# Altium footprint library CANTRICK.PcbLib: 29 footprints (part 2 of 2)
Each footprint in its own frame and in the unit in brackets; x right, y up, seen from the top. Pads: shape width x height; smd on the part's side, far side on the other; paste and mask are expansions set on the pad; w line width, h text height; cw(c..) or ccw(c..) is an arc to the next point about the centre after c.
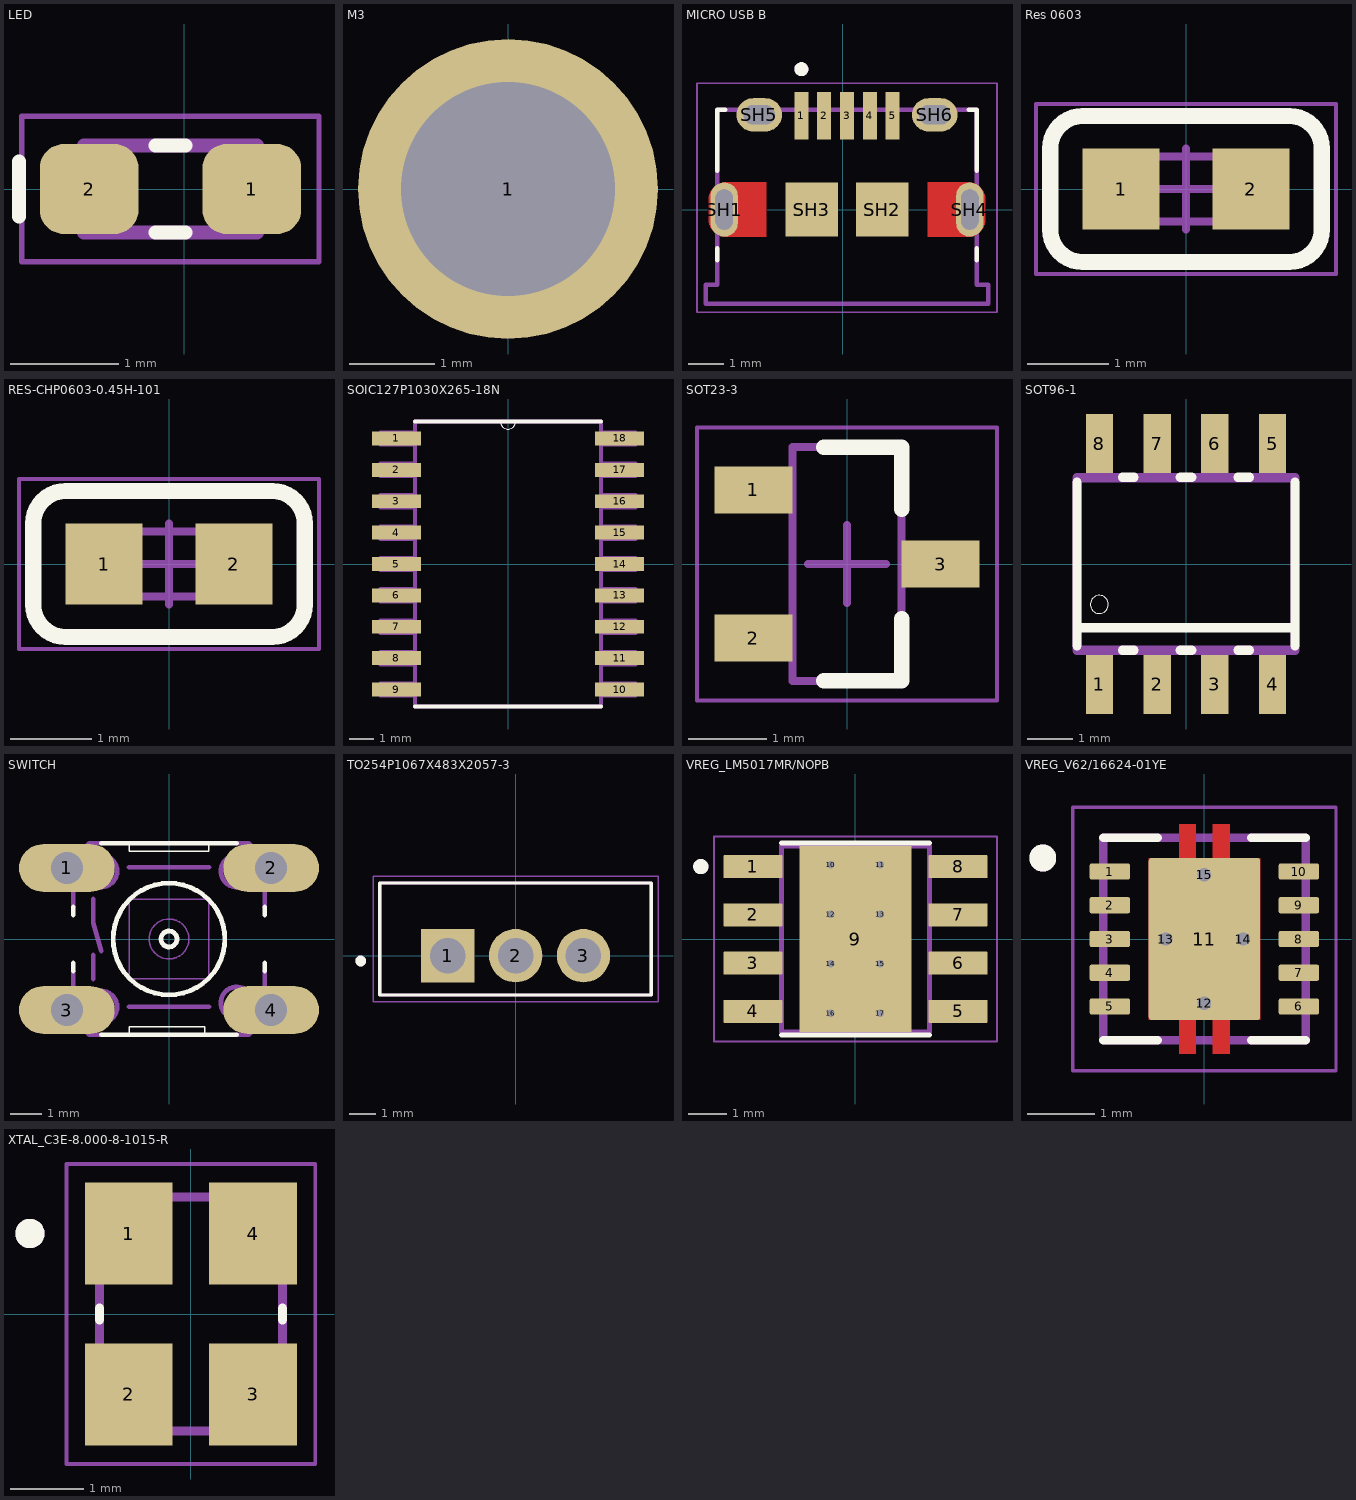
[diagram p1: the footprints below, top view; thin cyan lines are the x and y axes]

## LED [mm]
pads (2):
  rrect53% 0.91x0.83 smd: 1(0.623,0) 2(-0.877,0)
Top Overlay:
  lines w0.127: -1.524,-0.254 -1.524,0.254 ; -0.267,-0.4 0.013,-0.4 ; -0.267,0.4 0.013,0.4
Top Assembly:
  lines w0.127: -0.927,-0.4 -0.927,0.4 0.673,0.4 0.673,-0.4 -0.927,-0.4
Mechanical 15:
  lines w0.05: -1.497,-0.67 -1.497,0.67 1.243,0.67 1.243,-0.67 -1.497,-0.67
3D body "step_temp.STEP": height 0.7, standoff 0, extent -0.927,-0.4 0.673,0.4

## M3 [mm]
pads (1):
  round 3.5 hole 2.5: 1(0,0)

## MICRO USB B [mm]
pads (11):
  rect 0.4x1.35 smd: 1(-1.173,2.675) 2(-0.523,2.675) 3(0.127,2.675) 4(0.777,2.675) 5(1.427,2.675)
  oval 0.775x1.55 hole 0.5 slot 1.15 at 90 deg mask+0: SH1(-3.373,0) SH4(3.627,0)
  rect 1.5x1.55 smd: SH2(1.127,0) SH3(-0.873,0)
  oval 1.3x0.95 hole 0.55 slot 0.9 at 0 deg: SH5(-2.373,2.7) SH6(2.627,2.7)
Top Layer:
  region: -2.173,-0.775 -3.318,-0.775 -3.344,-0.774 -3.37,-0.772 -3.396,-0.769 -3.422,-0.764 -3.447,-0.758 -3.473,-0.751 -3.497,-0.742 -3.521,-0.732 -3.545,-0.721 -3.568,-0.708 -3.59,-0.694 -3.612,-0.68 -3.633,-0.664 -3.653,-0.647 -3.672,-0.629 -3.69,-0.61 -3.707,-0.59 -3.723,-0.569 -3.737,-0.547 -3.751,-0.525 -3.764,-0.502 -3.775,-0.478 -3.785,-0.454 -3.794,-0.43 -3.801,-0.404 -3.807,-0.379 -3.812,-0.353 -3.815,-0.327 -3.817,-0.301 -3.818,-0.275 -3.818,0.275 -3.817,0.301 -3.815,0.327 -3.812,0.353 -3.807,0.379 -3.801,0.404 -3.794,0.43 -3.785,0.454 -3.775,0.478 -3.764,0.502 -3.751,0.525 -3.737,0.547 -3.723,0.569 -3.707,0.59 -3.69,0.61 -3.672,0.629 -3.653,0.647 -3.633,0.664 -3.612,0.68 -3.59,0.694 -3.568,0.708 -3.545,0.721 -3.521,0.732 -3.497,0.742 -3.473,0.751 -3.447,0.758 -3.422,0.764 -3.396,0.769 -3.37,0.772 -3.344,0.774 -3.318,0.775 -2.173,0.775
  region: 3.598,0.774 3.624,0.772 3.65,0.769 3.676,0.764 3.701,0.758 3.727,0.751 3.751,0.742 3.775,0.732 3.799,0.721 3.822,0.708 3.844,0.694 3.866,0.68 3.887,0.664 3.907,0.647 3.926,0.629 3.944,0.61 3.961,0.59 3.977,0.569 3.991,0.547 4.005,0.525 4.018,0.502 4.029,0.478 4.039,0.454 4.048,0.43 4.055,0.404 4.061,0.379 4.066,0.353 4.069,0.327 4.071,0.301 4.072,0.275 4.072,-0.275 4.071,-0.301 4.069,-0.327 4.066,-0.353 4.061,-0.379 4.055,-0.404 4.048,-0.43 4.039,-0.454 4.029,-0.478 4.018,-0.502 4.005,-0.525 3.991,-0.547 3.977,-0.569 3.961,-0.59 3.944,-0.61 3.926,-0.629 3.907,-0.647 3.887,-0.664 3.866,-0.68 3.844,-0.694 3.822,-0.708 3.799,-0.721 3.775,-0.732 3.751,-0.742 3.727,-0.751 3.701,-0.758 3.676,-0.764 3.65,-0.769 3.624,-0.772 3.598,-0.774 3.572,-0.775 2.427,-0.775 2.427,0.775 3.572,0.775
Top Overlay:
  circle w0.2: c-1.173,4 r0.1
  lines w0.127: -3.573,-1.45 -3.573,-1.1 ; -3.573,1.1 -3.573,2.85 -3.343,2.85 ; 3.597,2.85 3.827,2.85 3.827,1.1 ; 3.827,-1.45 3.827,-1.1
Top Paste:
  region: -2.173,-0.775 -3.318,-0.775 -3.344,-0.774 -3.37,-0.772 -3.396,-0.769 -3.422,-0.764 -3.447,-0.758 -3.473,-0.751 -3.497,-0.742 -3.521,-0.732 -3.545,-0.721 -3.568,-0.708 -3.59,-0.694 -3.612,-0.68 -3.633,-0.664 -3.653,-0.647 -3.672,-0.629 -3.69,-0.61 -3.707,-0.59 -3.723,-0.569 -3.737,-0.547 -3.751,-0.525 -3.764,-0.502 -3.775,-0.478 -3.785,-0.454 -3.794,-0.43 -3.801,-0.404 -3.807,-0.379 -3.812,-0.353 -3.815,-0.327 -3.817,-0.301 -3.818,-0.275 -3.818,0.275 -3.817,0.301 -3.815,0.327 -3.812,0.353 -3.807,0.379 -3.801,0.404 -3.794,0.43 -3.785,0.454 -3.775,0.478 -3.764,0.502 -3.751,0.525 -3.737,0.547 -3.723,0.569 -3.707,0.59 -3.69,0.61 -3.672,0.629 -3.653,0.647 -3.633,0.664 -3.612,0.68 -3.59,0.694 -3.568,0.708 -3.545,0.721 -3.521,0.732 -3.497,0.742 -3.473,0.751 -3.447,0.758 -3.422,0.764 -3.396,0.769 -3.37,0.772 -3.344,0.774 -3.318,0.775 -2.173,0.775
  region: 3.598,0.774 3.624,0.772 3.65,0.769 3.676,0.764 3.701,0.758 3.727,0.751 3.751,0.742 3.775,0.732 3.799,0.721 3.822,0.708 3.844,0.694 3.866,0.68 3.887,0.664 3.907,0.647 3.926,0.629 3.944,0.61 3.961,0.59 3.977,0.569 3.991,0.547 4.005,0.525 4.018,0.502 4.029,0.478 4.039,0.454 4.048,0.43 4.055,0.404 4.061,0.379 4.066,0.353 4.069,0.327 4.071,0.301 4.072,0.275 4.072,-0.275 4.071,-0.301 4.069,-0.327 4.066,-0.353 4.061,-0.379 4.055,-0.404 4.048,-0.43 4.039,-0.454 4.029,-0.478 4.018,-0.502 4.005,-0.525 3.991,-0.547 3.977,-0.569 3.961,-0.59 3.944,-0.61 3.926,-0.629 3.907,-0.647 3.887,-0.664 3.866,-0.68 3.844,-0.694 3.822,-0.708 3.799,-0.721 3.775,-0.732 3.751,-0.742 3.727,-0.751 3.701,-0.758 3.676,-0.764 3.65,-0.769 3.624,-0.772 3.598,-0.774 3.572,-0.775 2.427,-0.775 2.427,0.775 3.572,0.775
Top Solder:
  region: -2.073,-0.875 -3.318,-0.875 -3.349,-0.874 -3.381,-0.872 -3.412,-0.868 -3.443,-0.862 -3.473,-0.855 -3.503,-0.846 -3.533,-0.835 -3.562,-0.823 -3.59,-0.81 -3.618,-0.795 -3.645,-0.778 -3.671,-0.76 -3.696,-0.741 -3.719,-0.721 -3.742,-0.699 -3.764,-0.676 -3.784,-0.653 -3.803,-0.628 -3.821,-0.602 -3.838,-0.575 -3.853,-0.547 -3.866,-0.519 -3.878,-0.49 -3.889,-0.46 -3.898,-0.43 -3.905,-0.4 -3.911,-0.369 -3.915,-0.338 -3.917,-0.306 -3.918,-0.275 -3.918,0.275 -3.917,0.306 -3.915,0.338 -3.911,0.369 -3.905,0.4 -3.898,0.43 -3.889,0.46 -3.878,0.49 -3.866,0.519 -3.853,0.547 -3.838,0.575 -3.821,0.602 -3.803,0.628 -3.784,0.653 -3.764,0.676 -3.742,0.699 -3.719,0.721 -3.696,0.741 -3.671,0.76 -3.645,0.778 -3.618,0.795 -3.59,0.81 -3.562,0.823 -3.533,0.835 -3.503,0.846 -3.473,0.855 -3.443,0.862 -3.412,0.868 -3.381,0.872 -3.349,0.874 -3.318,0.875 -2.073,0.875
  region: 3.603,0.874 3.635,0.872 3.666,0.868 3.697,0.862 3.727,0.855 3.757,0.846 3.787,0.835 3.816,0.823 3.844,0.81 3.872,0.795 3.899,0.778 3.925,0.76 3.95,0.741 3.973,0.721 3.996,0.699 4.018,0.676 4.038,0.653 4.057,0.628 4.075,0.602 4.092,0.575 4.107,0.547 4.12,0.519 4.132,0.49 4.143,0.46 4.152,0.43 4.159,0.4 4.165,0.369 4.169,0.338 4.171,0.306 4.172,0.275 4.172,-0.275 4.171,-0.306 4.169,-0.338 4.165,-0.369 4.159,-0.4 4.152,-0.43 4.143,-0.46 4.132,-0.49 4.12,-0.519 4.107,-0.547 4.092,-0.575 4.075,-0.602 4.057,-0.628 4.038,-0.653 4.018,-0.676 3.996,-0.699 3.973,-0.721 3.95,-0.741 3.925,-0.76 3.899,-0.778 3.872,-0.795 3.844,-0.81 3.816,-0.823 3.787,-0.835 3.757,-0.846 3.727,-0.855 3.697,-0.862 3.666,-0.868 3.635,-0.872 3.603,-0.874 3.572,-0.875 2.327,-0.875 2.327,0.875 3.572,0.875
Bottom Solder:
  drawing of 2 lines, arcs and shapes, not listed
Top Assembly:
  circle w0.2: c-1.173,4 r0.1
  lines w0.127: -3.898,-2.68 4.152,-2.68 4.152,-2.15 3.827,-2.15 3.827,2.85 -3.573,2.85 -3.573,-1.45 -3.573,-2.15 -3.898,-2.15 -3.898,-2.68
Mechanical 15:
  lines w0.05: -4.148,-2.93 -4.148,3.6 4.402,3.6 4.402,-2.93 -4.148,-2.93
3D body "step_temp.STEP": height 2.67, standoff -0.6, extent -3.898,-2.68 4.152,2.85

## Res 0603 [mm]
pads (2):
  rect 0.95x1 smd: 1(-0.8,0) 2(0.8,0)
Top Overlay:
  lines w0.2: -1.675,-0.5 ccw(c-1.275,-0.5) -1.275,-0.9 1.275,-0.9 ccw(c1.275,-0.5) 1.675,-0.5 1.675,0.5 ccw(c1.275,0.5) 1.275,0.9 -1.275,0.9 ccw(c-1.275,0.5) -1.675,0.5 -1.675,-0.5
Bottom 3D Body:
  lines w0.05: -1.85,-1.05 -1.85,1.05 1.85,1.05 1.85,-1.05 -1.85,-1.05
  lines w0.1: -0.5,0 0.5,0 ; 0,-0.5 0,0.5
Top Value:
  lines w0.1: -0.8,-0.4 -0.8,0.4 0.8,0.4 0.8,-0.4 -0.8,-0.4
  text "'.Comment'" at -3.512,-0.512 h1.6
Top Assembly:
  lines w0.1: -0.8,-0.4 -0.8,0.4 0.8,0.4 0.8,-0.4 -0.8,-0.4
  text "'.Designator'" at -3.872,-0.362 h1.6
3D body "RES-0603-0.45H-101.STEP": height 0.48, standoff 0.03, extent -0.8,-0.4 0.8,0.4

## RES-CHP0603-0.45H-101 [mm]
pads (2):
  rect 0.95x1 smd: 1(-0.8,0) 2(0.8,0)
Top Overlay:
  lines w0.2: -1.675,-0.5 ccw(c-1.275,-0.5) -1.275,-0.9 1.275,-0.9 ccw(c1.275,-0.5) 1.675,-0.5 1.675,0.5 ccw(c1.275,0.5) 1.275,0.9 -1.275,0.9 ccw(c-1.275,0.5) -1.675,0.5 -1.675,-0.5
Top Courtyard:
  lines w0.05: -1.85,-1.05 -1.85,1.05 1.85,1.05 1.85,-1.05 -1.85,-1.05
  lines w0.1: -0.5,0 0.5,0 ; 0,-0.5 0,0.5
Top Value:
  lines w0.1: -0.8,-0.4 -0.8,0.4 0.8,0.4 0.8,-0.4 -0.8,-0.4
  text "'.Comment'" at -3.512,-0.512 h1.6
Top Assembly:
  lines w0.1: -0.8,-0.4 -0.8,0.4 0.8,0.4 0.8,-0.4 -0.8,-0.4
  text "'.Designator'" at -3.872,-0.362 h1.6
Mechanical 20:
  lines w0.1: -0.8,-0.4 -0.8,0.4 0.8,0.4 0.8,-0.4 -0.8,-0.4
  text "'.Designator'" at -3.872,-0.362 h1.6
3D body "RES-0603-0.45H-101.STEP": height 0.48, standoff 0.03, extent -0.8,-0.4 0.8,0.4

## SOIC127P1030X265-18N [mil]
pads (18):
  rect 78x22 smd: 1(-178,200) 2(-178,150) 3(-178,100) 4(-178,50) 5(-178,0) 6(-178,-50) 7(-178,-100) 8(-178,-150) 9(-178,-200) 10(178,-200) 11(178,-150) 12(178,-100) 13(178,-50) 14(178,0) 15(178,50) 16(178,100) 17(178,150) 18(178,200)
Top Overlay:
  lines w0: -12,227 ccw(c0,227) 12,227
  lines w6: -148,-227 148,-227 ; -148,227 -12,227 12,227 148,227
Top Assembly:
  lines w0: -12,227 ccw(c0,227) 12,227
  lines w6: -203,-210 -148,-210 -148,-190 -203,-190 -203,-210 ; -203,-160 -148,-160 -148,-140 -203,-140 -203,-160 ; -203,-110 -148,-110 -148,-90 -203,-90 -203,-110 ; -203,-60 -148,-60 -148,-40 -203,-40 -203,-60 ; -203,-10 -148,-10 -148,10 -203,10 -203,-10 ; -203,40 -148,40 -148,60 -203,60 -203,40 ; -203,90 -148,90 -148,110 -203,110 -203,90 ; -203,140 -148,140 -148,160 -203,160 -203,140 ; -203,190 -148,190 -148,210 -203,210 -203,190 ; -148,-227 -148,227 -12,227 12,227 148,227 148,-227 -148,-227 ; 148,-210 203,-210 203,-190 148,-190 148,-210 ; 148,-160 203,-160 203,-140 148,-140 148,-160 ; 148,-110 203,-110 203,-90 148,-90 148,-110 ; 148,-60 203,-60 203,-40 148,-40 148,-60 ; 148,-10 203,-10 203,10 148,10 148,-10 ; 148,40 203,40 203,60 148,60 148,40 ; 148,90 203,90 203,110 148,110 148,90 ; 148,140 203,140 203,160 148,160 148,140 ; 148,190 203,190 203,210 148,210 148,190
3D body "step_temp.STEP": height 104.33, standoff 0, extent -202.76,-227.36 202.76,227.36

## SOT23-3 [mm]
pads (3):
  rect 1x0.6 smd: 1(-1.2,0.95) 2(-1.2,-0.95) 3(1.2,0)
Top Overlay:
  lines w0.2: -0.3,-1.5 0.7,-1.5 0.7,-0.7 ; -0.3,1.5 0.7,1.5 0.7,0.7
Top Courtyard:
  lines w0.05: -1.925,-1.75 1.925,-1.75 1.925,1.75 -1.925,1.75 -1.925,-1.75
  lines w0.1: -0.5,0 0.5,0 ; 0,-0.5 0,0.5
Top Assembly:
  lines w0.1: -0.7,-1.5 0.7,-1.5 0.7,1.5 -0.7,1.5 -0.7,-1.5
3D body "SOT23-3.step": height 1.1, standoff 0, extent -1.238,-1.494 1.262,1.506

## SOT96-1 [mm]
pads (8):
  rect 0.6x1.3 smd: 1(-1.905,-2.65) 2(-0.635,-2.65) 3(0.635,-2.65) 4(1.905,-2.65) 5(1.905,2.65) 6(0.635,2.65) 7(-0.635,2.65) 8(-1.905,2.65)
Top Overlay:
  circle w0: c-1.905,-0.889 r0.2
  lines w0.203: -2.4,-1.8 -2.4,-1.4 ; -2.4,1.8 -2.4,-1.4 ; -1.397,-1.9 -1.143,-1.9 ; -1.397,1.91 -1.143,1.91 ; -0.127,-1.9 0.127,-1.9 ; -0.127,1.91 0.127,1.91 ; 1.143,-1.9 1.397,-1.9 ; 1.143,1.91 1.397,1.91 ; 2.4,-1.8 2.4,-1.4 ; 2.4,1.8 2.4,-1.4 ; -2.4,-1.4 2.4,-1.4
Top Assembly:
  region: -1.66,2 -2.15,2 -2.15,3.1 -1.66,3.1
  region: -0.39,2 -0.88,2 -0.88,3.1 -0.39,3.1
  region: 0.88,2 0.39,2 0.39,3.1 0.88,3.1
  region: 2.15,2 1.66,2 1.66,3.1 2.15,3.1
  region: 2.15,-3.1 1.66,-3.1 1.66,-2 2.15,-2
  region: 0.88,-3.1 0.39,-3.1 0.39,-2 0.88,-2
  region: -0.39,-3.1 -0.88,-3.1 -0.88,-2 -0.39,-2
  region: -1.66,-3.1 -2.15,-3.1 -2.15,-2 -1.66,-2
  lines w0.203: -2.4,-1.9 -2.4,-1.4 -2.4,1.9 2.4,1.9 2.4,-1.4 2.4,-1.9 -2.4,-1.9
3D body "step_temp.STEP": height 1.75, standoff 0, extent -3,-2.45 3,2.45

## SWITCH [mil]
pads (4):
  oval 120x60 hole 40: 1(-128,89) 2(128,89) 3(-128,-89) 4(128,-89)
Top Overlay:
  circle w6: c0,0 r10
  circle w6: c0,0 r70
  lines w2: -50,-120 -50,-110 45,-110 45,-120 ; -50,120 -50,110 50,110 50,120
  lines w6: -120,-40 -120,-30 ; -120,30 -120,40 ; -85,-120 -50,-120 45,-120 85,-120 ; -85,120 -50,120 50,120 85,120 ; 120,-40 120,-30 ; 120,30 120,40
Top Assembly:
  circle w2: c0,0 r25
  circle w6: c-85,85 r20
  circle w6: c85,85 r20
  circle w6: c85,-80 r20
  circle w6: c-85,-85 r20
  lines w2: -50,-50 50,-50 50,50 -50,50 -50,-50
  lines w6: -120,-40 -120,-100 -100,-120 -85,-120 ; -120,40 -120,100 -100,120 -85,120 ; -95,-50 -95,-20 ; -95,50 -95,20 -85,-15 ; -50,-85 50,-85 ; -50,90 50,90 ; 85,-120 100,-120 120,-100 120,-40 ; 85,120 100,120 120,100 120,40
  text "4" at 140.14,-110.11 h50.05
  text "3" at -180.16,-110.1 h50.04
  text "2" at 140.21,60.09 h50.08
  text "1" at -170.13,65.05 h50.04
3D body "skhhana010.SLDPRT": height 374.02, standoff -137.8, extent -160.51,-122.05 150.51,122.05

## TO254P1067X483X2057-3 [mm]
height 20.57
pads (3):
  rect 2x2 / inner round 2 / far side rect 2x2 hole 1.33: 1(-2.54,0)
  round 2 hole 1.33: 2(0,0) 3(2.54,0)
Top Overlay:
  circle w0.2: c-5.8,-0.2 r0.1
  lines w0.127: -5.08,-1.475 -5.08,2.72 5.08,2.72 5.08,-1.475 -5.08,-1.475
Top Assembly:
  circle w0.2: c-5.8,-0.2 r0.1
  lines w0.127: -5.08,-1.475 5.08,-1.475 5.08,2.72 -5.08,2.72 -5.08,-1.475
Mechanical 15:
  lines w0.05: -5.33,-1.725 5.33,-1.725 5.33,2.97 -5.33,2.97 -5.33,-1.725
3D body "step_temp.STEP": height 20.57, standoff -10.67, extent -5.08,-1.473 5.08,2.718

## VREG_LM5017MR/NOPB [mm]
pads (17):
  rrect5% 1.55x0.6 smd mask+0: 1(-2.7,1.905) 2(-2.7,0.635) 3(-2.7,-0.635) 4(-2.7,-1.905) 5(2.7,-1.905) 6(2.7,-0.635) 7(2.7,0.635) 8(2.7,1.905)
  rect 2.95x4.9 smd paste-3 mask+0: 9(0,0)
  round 0.3 hole 0.2: 10(-0.65,1.95) 11(0.65,1.95) 12(-0.65,0.65) 13(0.65,0.65) 14(-0.65,-0.65) 15(0.65,-0.65) 16(-0.65,-1.95) 17(0.65,-1.95)
Top Overlay:
  circle w0.2: c-4.07,1.905 r0.1
  lines w0.127: -1.95,-2.525 1.95,-2.525 ; -1.95,2.525 1.95,2.525
Top Paste:
  region: 1.355,-1.7 -1.355,-1.7 -1.355,1.7 1.355,1.7
Top Solder:
  drawing of 9 lines, arcs and shapes, not listed
Top Assembly:
  circle w0.2: c-4.07,1.905 r0.1
  lines w0.127: -1.95,-2.45 1.95,-2.45 1.95,2.45 -1.95,2.45 -1.95,-2.45
Mechanical 15:
  lines w0.05: -3.725,-2.7 3.725,-2.7 3.725,2.7 -3.725,2.7 -3.725,-2.7
3D body "step_temp.STEP": height 1.7, standoff 0, extent -3,-2.45 3,2.45

## VREG_V62/16624-01YE [mm]
pads (15):
  rrect25% 0.6x0.24 smd paste+0 mask+0: 1(-1.4,1) 2(-1.4,0.5) 3(-1.4,0) 4(-1.4,-0.5) 5(-1.4,-1) 6(1.4,-1) 7(1.4,-0.5) 8(1.4,0) 9(1.4,0.5) 10(1.4,1)
  rrect5% 1.65x2.4 smd paste-2 mask+0: 11(0,0)
  round 0.3 hole 0.2 mask+0: 12(0,-0.95) 13(-0.575,0) 14(0.575,0) 15(0,0.95)
Top Layer:
  region: 0.375,1.2 0.825,1.2 0.825,-1.2 0.375,-1.2 0.375,-1.7 0.125,-1.7 0.125,-1.2 -0.125,-1.2 -0.125,-1.7 -0.375,-1.7 -0.375,-1.2 -0.825,-1.2 -0.825,1.2 -0.375,1.2 -0.375,1.7 -0.125,1.7 -0.125,1.2 0.125,1.2 0.125,1.7 0.375,1.7
Top Overlay:
  circle w0.2: c-2.395,1.2 r0.1
  lines w0.127: -1.5,-1.5 -0.695,-1.5 ; -1.5,1.5 -0.695,1.5 ; 0.695,-1.5 1.5,-1.5 ; 0.695,1.5 1.5,1.5
Top Paste:
  region: 0.75,0.1 -0.75,0.1 -0.75,1.16 0.75,1.16
  region: 0.75,-1.16 -0.75,-1.16 -0.75,-0.1 0.75,-0.1
  region: 0.375,1.36 0.125,1.36 0.125,1.7 0.375,1.7
  region: -0.125,1.36 -0.375,1.36 -0.375,1.7 -0.125,1.7
  region: 0.375,-1.7 0.125,-1.7 0.125,-1.36 0.375,-1.36
  region: -0.125,-1.7 -0.375,-1.7 -0.375,-1.36 -0.125,-1.36
Top Solder:
  region: 0.445,1.27 0.895,1.27 0.895,-1.27 0.445,-1.27 0.445,-1.77 0.055,-1.77 0.055,-1.27 -0.055,-1.27 -0.055,-1.77 -0.445,-1.77 -0.445,-1.27 -0.895,-1.27 -0.895,1.27 -0.445,1.27 -0.445,1.77 -0.055,1.77 -0.055,1.27 0.055,1.27 0.055,1.77 0.445,1.77
  region: 1.77,0.81 1.03,0.81 1.03,1.19 1.77,1.19
  region: 1.77,0.31 1.03,0.31 1.03,0.69 1.77,0.69
  region: 1.77,-0.19 1.03,-0.19 1.03,0.19 1.77,0.19
  region: 1.77,-0.69 1.03,-0.69 1.03,-0.31 1.77,-0.31
  region: 1.77,-1.19 1.03,-1.19 1.03,-0.81 1.77,-0.81
  region: -1.03,-1.19 -1.77,-1.19 -1.77,-0.81 -1.03,-0.81
  region: -1.03,-0.69 -1.77,-0.69 -1.77,-0.31 -1.03,-0.31
  region: -1.03,-0.19 -1.77,-0.19 -1.77,0.19 -1.03,0.19
  region: -1.03,0.31 -1.77,0.31 -1.77,0.69 -1.03,0.69
  region: -1.03,0.81 -1.77,0.81 -1.77,1.19 -1.03,1.19
Top Assembly:
  circle w0.2: c-2.395,1.2 r0.1
  lines w0.127: -1.5,-1.5 -1.5,1.5 1.5,1.5 1.5,-1.5 -1.5,-1.5
Mechanical 15:
  lines w0.05: -1.95,-1.95 -1.95,1.95 1.95,1.95 1.95,-1.95 -1.95,-1.95
3D body "step_temp.STEP": height 1, standoff 0, extent -1.5,-1.5 1.5,1.5

## XTAL_C3E-8.000-8-1015-R [mm]
height 0.75
pads (4):
  rect 1.2x1.4 smd: 1(-0.85,1.1) 2(-0.85,-1.1) 3(0.85,-1.1) 4(0.85,1.1)
Top Overlay:
  circle w0.2: c-2.2,1.1 r0.1
  lines w0.127: -1.25,-0.08 -1.25,0.08 ; 1.25,-0.08 1.25,0.08
Top Assembly:
  circle w0.2: c-2.2,1.1 r0.1
  lines w0.127: -1.25,-1.6 1.25,-1.6 1.25,1.6 -1.25,1.6 -1.25,-1.6
Mechanical 15:
  lines w0.05: -1.7,-2.05 1.7,-2.05 1.7,2.05 -1.7,2.05 -1.7,-2.05
3D body "step_temp.STEP": height 0.75, standoff 0, extent -1.25,-1.6 1.25,1.6